# Altium schematic symbol library SCH - POWER - SWITCHMODE - MICROCHIP MIC2619.SCHLIB: 1 symbol
Pins are listed as number, name and electrical type; pins without a type are passive.

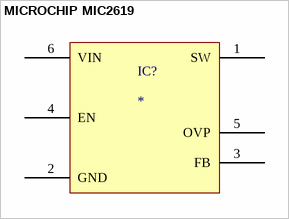
[diagram p0: symbol MICROCHIP MIC2619]

## MICROCHIP MIC2619
designator IC?
pins: 1 SW, 2 GND, 3 FB, 4 EN, 5 OVP, 6 VIN